# Altium footprint library ATSAMA5D27C-LD2G-CU.PcbLib: 3 footprints
Each footprint in its own frame and in the unit in brackets; x right, y up, seen from the top. Pads: shape width x height; smd on the part's side, far side on the other; paste and mask are expansions set on the pad; w line width, h text height; cw(c..) or ccw(c..) is an arc to the next point about the centre after c.
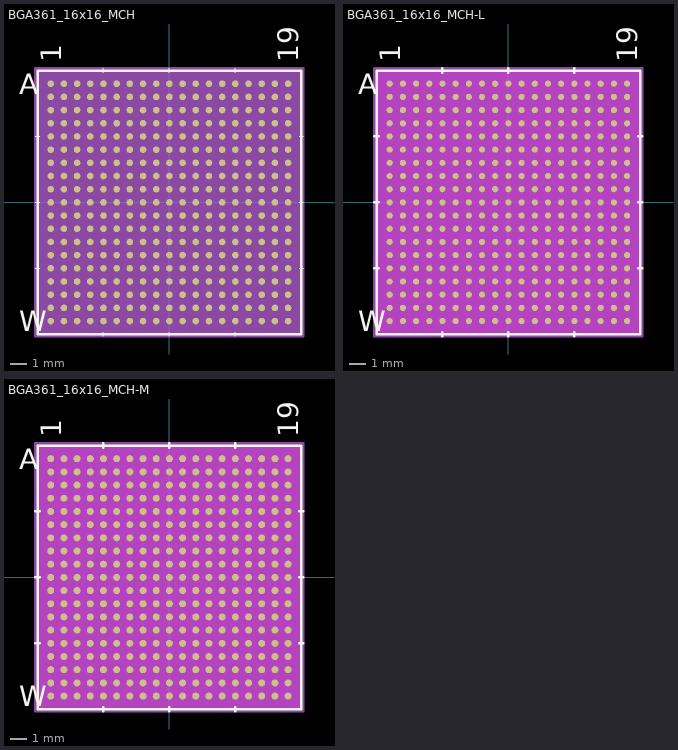
[diagram p0: the footprints below, top view; thin cyan lines are the x and y axes]

## BGA361_16x16_MCH [mil]
pads (361):
  round 16 smd paste+0 mask+0: A1(-288,288) A2(-256,288) A3(-224,288) A4(-192,288) A5(-160,288) A6(-128,288) A7(-96,288) A8(-64,288) A9(-32,288) A10(0,288) A11(32,288) A12(64,288) A13(96,288) A14(128,288) A15(160,288) A16(192,288) A17(224,288) A18(256,288) A19(288,288) B1(-288,256) B2(-256,256) B3(-224,256) B4(-192,256) B5(-160,256) B6(-128,256) B7(-96,256) B8(-64,256) B9(-32,256) B10(0,256) B11(32,256) B12(64,256) B13(96,256) B14(128,256) B15(160,256) B16(192,256) B17(224,256) B18(256,256) B19(288,256) C1(-288,224) C2(-256,224) C3(-224,224) C4(-192,224) C5(-160,224) C6(-128,224) C7(-96,224) C8(-64,224) C9(-32,224) C10(0,224) C11(32,224) C12(64,224) C13(96,224) C14(128,224) C15(160,224) C16(192,224) C17(224,224) C18(256,224) C19(288,224) D1(-288,192) D2(-256,192) D3(-224,192) D4(-192,192) D5(-160,192) D6(-128,192) D7(-96,192) D8(-64,192) D9(-32,192) D10(0,192) D11(32,192) D12(64,192) D13(96,192) D14(128,192) D15(160,192) D16(192,192) D17(224,192) D18(256,192) D19(288,192) E1(-288,160) E2(-256,160) E3(-224,160) E4(-192,160) E5(-160,160) E6(-128,160) E7(-96,160) E8(-64,160) E9(-32,160) E10(0,160) E11(32,160) E12(64,160) E13(96,160) E14(128,160) E15(160,160) E16(192,160) E17(224,160) E18(256,160) E19(288,160) F1(-288,128) F2(-256,128) F3(-224,128) F4(-192,128) F5(-160,128) F6(-128,128) F7(-96,128) F8(-64,128) F9(-32,128) F10(0,128) F11(32,128) F12(64,128) F13(96,128) F14(128,128) F15(160,128) F16(192,128) F17(224,128) F18(256,128) F19(288,128) G1(-288,96) G2(-256,96) G3(-224,96) G4(-192,96) G5(-160,96) G6(-128,96) G7(-96,96) G8(-64,96) G9(-32,96) G10(0,96) G11(32,96) G12(64,96) G13(96,96) G14(128,96) G15(160,96) G16(192,96) G17(224,96) G18(256,96) G19(288,96) H1(-288,64) H2(-256,64) H3(-224,64) H4(-192,64) H5(-160,64) H6(-128,64) H7(-96,64) H8(-64,64) H9(-32,64) H10(0,64) H11(32,64) H12(64,64) H13(96,64) H14(128,64) H15(160,64) H16(192,64) H17(224,64) H18(256,64) H19(288,64) J1(-288,32) J2(-256,32) J3(-224,32) J4(-192,32) J5(-160,32) J6(-128,32) J7(-96,32) J8(-64,32) J9(-32,32) J10(0,32) J11(32,32) J12(64,32) J13(96,32) J14(128,32) J15(160,32) J16(192,32) J17(224,32) J18(256,32) J19(288,32) K1(-288,0) K2(-256,0) K3(-224,0) K4(-192,0) K5(-160,0) K6(-128,0) K7(-96,0) K8(-64,0) K9(-32,0) K10(0,0) K11(32,0) K12(64,0) K13(96,0) K14(128,0) K15(160,0) K16(192,0) K17(224,0) K18(256,0) K19(288,0) L1(-288,-32) L2(-256,-32) L3(-224,-32) L4(-192,-32) L5(-160,-32) L6(-128,-32) L7(-96,-32) L8(-64,-32) L9(-32,-32) L10(0,-32) L11(32,-32) L12(64,-32) L13(96,-32) L14(128,-32) L15(160,-32) L16(192,-32) L17(224,-32) L18(256,-32) L19(288,-32) M1(-288,-64) M2(-256,-64) M3(-224,-64) M4(-192,-64) M5(-160,-64) M6(-128,-64) M7(-96,-64) M8(-64,-64) M9(-32,-64) M10(0,-64) M11(32,-64) M12(64,-64) M13(96,-64) M14(128,-64) M15(160,-64) M16(192,-64) M17(224,-64) M18(256,-64) M19(288,-64) N1(-288,-96) N2(-256,-96) N3(-224,-96) N4(-192,-96) N5(-160,-96) N6(-128,-96) N7(-96,-96) N8(-64,-96) N9(-32,-96) N10(0,-96) N11(32,-96) N12(64,-96) N13(96,-96) N14(128,-96) N15(160,-96) N16(192,-96) N17(224,-96) N18(256,-96) N19(288,-96) P1(-288,-128) P2(-256,-128) P3(-224,-128) P4(-192,-128) P5(-160,-128) P6(-128,-128) P7(-96,-128) P8(-64,-128) P9(-32,-128) P10(0,-128) P11(32,-128) P12(64,-128) P13(96,-128) P14(128,-128) P15(160,-128) P16(192,-128) P17(224,-128) P18(256,-128) P19(288,-128) R1(-288,-160) R2(-256,-160) R3(-224,-160) R4(-192,-160) R5(-160,-160) R6(-128,-160) R7(-96,-160) R8(-64,-160) R9(-32,-160) R10(0,-160) R11(32,-160) R12(64,-160) R13(96,-160) R14(128,-160) R15(160,-160) R16(192,-160) R17(224,-160) R18(256,-160) R19(288,-160) T1(-288,-192) T2(-256,-192) T3(-224,-192) T4(-192,-192) T5(-160,-192) T6(-128,-192) T7(-96,-192) T8(-64,-192) T9(-32,-192) T10(0,-192) T11(32,-192) T12(64,-192) T13(96,-192) T14(128,-192) T15(160,-192) T16(192,-192) T17(224,-192) T18(256,-192) T19(288,-192) U1(-288,-224) U2(-256,-224) U3(-224,-224) U4(-192,-224) U5(-160,-224) U6(-128,-224) U7(-96,-224) U8(-64,-224) U9(-32,-224) U10(0,-224) U11(32,-224) U12(64,-224) U13(96,-224) U14(128,-224) U15(160,-224) U16(192,-224) U17(224,-224) U18(256,-224) U19(288,-224) V1(-288,-256) V2(-256,-256) V3(-224,-256) V4(-192,-256) V5(-160,-256) V6(-128,-256) V7(-96,-256) V8(-64,-256) V9(-32,-256) V10(0,-256) V11(32,-256) V12(64,-256) V13(96,-256) V14(128,-256) V15(160,-256) V16(192,-256) V17(224,-256) V18(256,-256) V19(288,-256) W1(-288,-288) W2(-256,-288) W3(-224,-288) W4(-192,-288) W5(-160,-288) W6(-128,-288) W7(-96,-288) W8(-64,-288) W9(-32,-288) W10(0,-288) W11(32,-288) W12(64,-288) W13(96,-288) W14(128,-288) W15(160,-288) W16(192,-288) W17(224,-288) W18(256,-288) W19(288,-288)
Top Overlay:
  lines w1: -325,-160 -315,-160 ; -325,0 -315,0 ; -325,160 -315,160 ; -160,-325 -160,-315 ; -160,315 -160,325 ; 0,-325 0,-315 ; 0,315 0,325 ; 160,-325 160,-315 ; 160,315 160,325 ; 315,-160 325,-160 ; 315,0 325,0 ; 315,160 325,160
  lines w6: -320,-320 -320,320 320,320 320,-320 -320,-320
  text "19" at 313,340 h50
  text "1" at -263,340 h50
  text "W" at -365,-313 h50
  text "A" at -365,263 h50
Bottom Overlay:
  text "19" at 263,340 h50
  text "1" at -313,340 h50
  text "W" at -340,-313 h50
  text "A" at -340,263 h50
Mechanical 13:
  lines w1: -315,299 -299,315 ; -315,-315 -315,315 315,315 315,-315 -315,-315
  text "19" at 313,340 h50
  text "1" at -263,340 h50
  text "W" at -365,-313 h50
  text "A" at -365,263 h50
Mechanical 15:
  region: 325,-325 -325,-325 -325,325 325,325
  lines w6: -325,-325 325,-325 325,325 -325,325 -325,-325
3D body "BGA361_16x16_MCH.step": height 47.09, standoff 0, extent -316.29,-312.59 313.71,317.41
3D body "BGA361_16x16_MCH.step": height 47.09, standoff 0, extent -315,-315 315,315

## BGA361_16x16_MCH-L [mil]
pads (361):
  round 15 smd paste+0 mask+0: A1(-288,288) A2(-256,288) A3(-224,288) A4(-192,288) A5(-160,288) A6(-128,288) A7(-96,288) A8(-64,288) A9(-32,288) A10(0,288) A11(32,288) A12(64,288) A13(96,288) A14(128,288) A15(160,288) A16(192,288) A17(224,288) A18(256,288) A19(288,288) B1(-288,256) B2(-256,256) B3(-224,256) B4(-192,256) B5(-160,256) B6(-128,256) B7(-96,256) B8(-64,256) B9(-32,256) B10(0,256) B11(32,256) B12(64,256) B13(96,256) B14(128,256) B15(160,256) B16(192,256) B17(224,256) B18(256,256) B19(288,256) C1(-288,224) C2(-256,224) C3(-224,224) C4(-192,224) C5(-160,224) C6(-128,224) C7(-96,224) C8(-64,224) C9(-32,224) C10(0,224) C11(32,224) C12(64,224) C13(96,224) C14(128,224) C15(160,224) C16(192,224) C17(224,224) C18(256,224) C19(288,224) D1(-288,192) D2(-256,192) D3(-224,192) D4(-192,192) D5(-160,192) D6(-128,192) D7(-96,192) D8(-64,192) D9(-32,192) D10(0,192) D11(32,192) D12(64,192) D13(96,192) D14(128,192) D15(160,192) D16(192,192) D17(224,192) D18(256,192) D19(288,192) E1(-288,160) E2(-256,160) E3(-224,160) E4(-192,160) E5(-160,160) E6(-128,160) E7(-96,160) E8(-64,160) E9(-32,160) E10(0,160) E11(32,160) E12(64,160) E13(96,160) E14(128,160) E15(160,160) E16(192,160) E17(224,160) E18(256,160) E19(288,160) F1(-288,128) F2(-256,128) F3(-224,128) F4(-192,128) F5(-160,128) F6(-128,128) F7(-96,128) F8(-64,128) F9(-32,128) F10(0,128) F11(32,128) F12(64,128) F13(96,128) F14(128,128) F15(160,128) F16(192,128) F17(224,128) F18(256,128) F19(288,128) G1(-288,96) G2(-256,96) G3(-224,96) G4(-192,96) G5(-160,96) G6(-128,96) G7(-96,96) G8(-64,96) G9(-32,96) G10(0,96) G11(32,96) G12(64,96) G13(96,96) G14(128,96) G15(160,96) G16(192,96) G17(224,96) G18(256,96) G19(288,96) H1(-288,64) H2(-256,64) H3(-224,64) H4(-192,64) H5(-160,64) H6(-128,64) H7(-96,64) H8(-64,64) H9(-32,64) H10(0,64) H11(32,64) H12(64,64) H13(96,64) H14(128,64) H15(160,64) H16(192,64) H17(224,64) H18(256,64) H19(288,64) J1(-288,32) J2(-256,32) J3(-224,32) J4(-192,32) J5(-160,32) J6(-128,32) J7(-96,32) J8(-64,32) J9(-32,32) J10(0,32) J11(32,32) J12(64,32) J13(96,32) J14(128,32) J15(160,32) J16(192,32) J17(224,32) J18(256,32) J19(288,32) K1(-288,0) K2(-256,0) K3(-224,0) K4(-192,0) K5(-160,0) K6(-128,0) K7(-96,0) K8(-64,0) K9(-32,0) K10(0,0) K11(32,0) K12(64,0) K13(96,0) K14(128,0) K15(160,0) K16(192,0) K17(224,0) K18(256,0) K19(288,0) L1(-288,-32) L2(-256,-32) L3(-224,-32) L4(-192,-32) L5(-160,-32) L6(-128,-32) L7(-96,-32) L8(-64,-32) L9(-32,-32) L10(0,-32) L11(32,-32) L12(64,-32) L13(96,-32) L14(128,-32) L15(160,-32) L16(192,-32) L17(224,-32) L18(256,-32) L19(288,-32) M1(-288,-64) M2(-256,-64) M3(-224,-64) M4(-192,-64) M5(-160,-64) M6(-128,-64) M7(-96,-64) M8(-64,-64) M9(-32,-64) M10(0,-64) M11(32,-64) M12(64,-64) M13(96,-64) M14(128,-64) M15(160,-64) M16(192,-64) M17(224,-64) M18(256,-64) M19(288,-64) N1(-288,-96) N2(-256,-96) N3(-224,-96) N4(-192,-96) N5(-160,-96) N6(-128,-96) N7(-96,-96) N8(-64,-96) N9(-32,-96) N10(0,-96) N11(32,-96) N12(64,-96) N13(96,-96) N14(128,-96) N15(160,-96) N16(192,-96) N17(224,-96) N18(256,-96) N19(288,-96) P1(-288,-128) P2(-256,-128) P3(-224,-128) P4(-192,-128) P5(-160,-128) P6(-128,-128) P7(-96,-128) P8(-64,-128) P9(-32,-128) P10(0,-128) P11(32,-128) P12(64,-128) P13(96,-128) P14(128,-128) P15(160,-128) P16(192,-128) P17(224,-128) P18(256,-128) P19(288,-128) R1(-288,-160) R2(-256,-160) R3(-224,-160) R4(-192,-160) R5(-160,-160) R6(-128,-160) R7(-96,-160) R8(-64,-160) R9(-32,-160) R10(0,-160) R11(32,-160) R12(64,-160) R13(96,-160) R14(128,-160) R15(160,-160) R16(192,-160) R17(224,-160) R18(256,-160) R19(288,-160) T1(-288,-192) T2(-256,-192) T3(-224,-192) T4(-192,-192) T5(-160,-192) T6(-128,-192) T7(-96,-192) T8(-64,-192) T9(-32,-192) T10(0,-192) T11(32,-192) T12(64,-192) T13(96,-192) T14(128,-192) T15(160,-192) T16(192,-192) T17(224,-192) T18(256,-192) T19(288,-192) U1(-288,-224) U2(-256,-224) U3(-224,-224) U4(-192,-224) U5(-160,-224) U6(-128,-224) U7(-96,-224) U8(-64,-224) U9(-32,-224) U10(0,-224) U11(32,-224) U12(64,-224) U13(96,-224) U14(128,-224) U15(160,-224) U16(192,-224) U17(224,-224) U18(256,-224) U19(288,-224) V1(-288,-256) V2(-256,-256) V3(-224,-256) V4(-192,-256) V5(-160,-256) V6(-128,-256) V7(-96,-256) V8(-64,-256) V9(-32,-256) V10(0,-256) V11(32,-256) V12(64,-256) V13(96,-256) V14(128,-256) V15(160,-256) V16(192,-256) V17(224,-256) V18(256,-256) V19(288,-256) W1(-288,-288) W2(-256,-288) W3(-224,-288) W4(-192,-288) W5(-160,-288) W6(-128,-288) W7(-96,-288) W8(-64,-288) W9(-32,-288) W10(0,-288) W11(32,-288) W12(64,-288) W13(96,-288) W14(128,-288) W15(160,-288) W16(192,-288) W17(224,-288) W18(256,-288) W19(288,-288)
Top Overlay:
  lines w6: -325,-160 -315,-160 ; -325,0 -315,0 ; -325,160 -315,160 ; -160,-325 -160,-315 ; -160,315 -160,325 ; 0,-325 0,-315 ; 0,315 0,325 ; 160,-325 160,-315 ; 160,315 160,325 ; 315,-160 325,-160 ; 315,0 325,0 ; 315,160 325,160 ; -320,-320 320,-320 320,320 -320,320 -320,-320
  text "A" at -365,263 h50
  text "W" at -365,-313 h50
  text "1" at -263,340 h50
  text "19" at 313,340 h50
Bottom Overlay:
  text "A" at -340,263 h50
  text "W" at -340,-313 h50
  text "1" at -313,340 h50
  text "19" at 263,340 h50
Keep-Out Layer:
  region: -321.5,-321.5 -321.5,321.5 321.5,321.5 321.5,-321.5
Mechanical 13:
  lines w1: -315,299 -299,315 ; -315,-315 315,-315 315,315 -315,315 -315,-315
  text "A" at -365,263 h50
  text "W" at -365,-313 h50
  text "1" at -263,340 h50
  text "19" at 313,340 h50
Mechanical 15:
  region: 325,-325 -325,-325 -325,325 325,325
  lines w6: -325,-325 -325,325 325,325 325,-325 -325,-325
3D body "BGA361_16x16_MCH.step": height 47.09, standoff 0, extent -315,-315 315,315

## BGA361_16x16_MCH-M [mil]
pads (361):
  round 17 smd paste+0 mask+0: A1(-288,288) A2(-256,288) A3(-224,288) A4(-192,288) A5(-160,288) A6(-128,288) A7(-96,288) A8(-64,288) A9(-32,288) A10(0,288) A11(32,288) A12(64,288) A13(96,288) A14(128,288) A15(160,288) A16(192,288) A17(224,288) A18(256,288) A19(288,288) B1(-288,256) B2(-256,256) B3(-224,256) B4(-192,256) B5(-160,256) B6(-128,256) B7(-96,256) B8(-64,256) B9(-32,256) B10(0,256) B11(32,256) B12(64,256) B13(96,256) B14(128,256) B15(160,256) B16(192,256) B17(224,256) B18(256,256) B19(288,256) C1(-288,224) C2(-256,224) C3(-224,224) C4(-192,224) C5(-160,224) C6(-128,224) C7(-96,224) C8(-64,224) C9(-32,224) C10(0,224) C11(32,224) C12(64,224) C13(96,224) C14(128,224) C15(160,224) C16(192,224) C17(224,224) C18(256,224) C19(288,224) D1(-288,192) D2(-256,192) D3(-224,192) D4(-192,192) D5(-160,192) D6(-128,192) D7(-96,192) D8(-64,192) D9(-32,192) D10(0,192) D11(32,192) D12(64,192) D13(96,192) D14(128,192) D15(160,192) D16(192,192) D17(224,192) D18(256,192) D19(288,192) E1(-288,160) E2(-256,160) E3(-224,160) E4(-192,160) E5(-160,160) E6(-128,160) E7(-96,160) E8(-64,160) E9(-32,160) E10(0,160) E11(32,160) E12(64,160) E13(96,160) E14(128,160) E15(160,160) E16(192,160) E17(224,160) E18(256,160) E19(288,160) F1(-288,128) F2(-256,128) F3(-224,128) F4(-192,128) F5(-160,128) F6(-128,128) F7(-96,128) F8(-64,128) F9(-32,128) F10(0,128) F11(32,128) F12(64,128) F13(96,128) F14(128,128) F15(160,128) F16(192,128) F17(224,128) F18(256,128) F19(288,128) G1(-288,96) G2(-256,96) G3(-224,96) G4(-192,96) G5(-160,96) G6(-128,96) G7(-96,96) G8(-64,96) G9(-32,96) G10(0,96) G11(32,96) G12(64,96) G13(96,96) G14(128,96) G15(160,96) G16(192,96) G17(224,96) G18(256,96) G19(288,96) H1(-288,64) H2(-256,64) H3(-224,64) H4(-192,64) H5(-160,64) H6(-128,64) H7(-96,64) H8(-64,64) H9(-32,64) H10(0,64) H11(32,64) H12(64,64) H13(96,64) H14(128,64) H15(160,64) H16(192,64) H17(224,64) H18(256,64) H19(288,64) J1(-288,32) J2(-256,32) J3(-224,32) J4(-192,32) J5(-160,32) J6(-128,32) J7(-96,32) J8(-64,32) J9(-32,32) J10(0,32) J11(32,32) J12(64,32) J13(96,32) J14(128,32) J15(160,32) J16(192,32) J17(224,32) J18(256,32) J19(288,32) K1(-288,0) K2(-256,0) K3(-224,0) K4(-192,0) K5(-160,0) K6(-128,0) K7(-96,0) K8(-64,0) K9(-32,0) K10(0,0) K11(32,0) K12(64,0) K13(96,0) K14(128,0) K15(160,0) K16(192,0) K17(224,0) K18(256,0) K19(288,0) L1(-288,-32) L2(-256,-32) L3(-224,-32) L4(-192,-32) L5(-160,-32) L6(-128,-32) L7(-96,-32) L8(-64,-32) L9(-32,-32) L10(0,-32) L11(32,-32) L12(64,-32) L13(96,-32) L14(128,-32) L15(160,-32) L16(192,-32) L17(224,-32) L18(256,-32) L19(288,-32) M1(-288,-64) M2(-256,-64) M3(-224,-64) M4(-192,-64) M5(-160,-64) M6(-128,-64) M7(-96,-64) M8(-64,-64) M9(-32,-64) M10(0,-64) M11(32,-64) M12(64,-64) M13(96,-64) M14(128,-64) M15(160,-64) M16(192,-64) M17(224,-64) M18(256,-64) M19(288,-64) N1(-288,-96) N2(-256,-96) N3(-224,-96) N4(-192,-96) N5(-160,-96) N6(-128,-96) N7(-96,-96) N8(-64,-96) N9(-32,-96) N10(0,-96) N11(32,-96) N12(64,-96) N13(96,-96) N14(128,-96) N15(160,-96) N16(192,-96) N17(224,-96) N18(256,-96) N19(288,-96) P1(-288,-128) P2(-256,-128) P3(-224,-128) P4(-192,-128) P5(-160,-128) P6(-128,-128) P7(-96,-128) P8(-64,-128) P9(-32,-128) P10(0,-128) P11(32,-128) P12(64,-128) P13(96,-128) P14(128,-128) P15(160,-128) P16(192,-128) P17(224,-128) P18(256,-128) P19(288,-128) R1(-288,-160) R2(-256,-160) R3(-224,-160) R4(-192,-160) R5(-160,-160) R6(-128,-160) R7(-96,-160) R8(-64,-160) R9(-32,-160) R10(0,-160) R11(32,-160) R12(64,-160) R13(96,-160) R14(128,-160) R15(160,-160) R16(192,-160) R17(224,-160) R18(256,-160) R19(288,-160) T1(-288,-192) T2(-256,-192) T3(-224,-192) T4(-192,-192) T5(-160,-192) T6(-128,-192) T7(-96,-192) T8(-64,-192) T9(-32,-192) T10(0,-192) T11(32,-192) T12(64,-192) T13(96,-192) T14(128,-192) T15(160,-192) T16(192,-192) T17(224,-192) T18(256,-192) T19(288,-192) U1(-288,-224) U2(-256,-224) U3(-224,-224) U4(-192,-224) U5(-160,-224) U6(-128,-224) U7(-96,-224) U8(-64,-224) U9(-32,-224) U10(0,-224) U11(32,-224) U12(64,-224) U13(96,-224) U14(128,-224) U15(160,-224) U16(192,-224) U17(224,-224) U18(256,-224) U19(288,-224) V1(-288,-256) V2(-256,-256) V3(-224,-256) V4(-192,-256) V5(-160,-256) V6(-128,-256) V7(-96,-256) V8(-64,-256) V9(-32,-256) V10(0,-256) V11(32,-256) V12(64,-256) V13(96,-256) V14(128,-256) V15(160,-256) V16(192,-256) V17(224,-256) V18(256,-256) V19(288,-256) W1(-288,-288) W2(-256,-288) W3(-224,-288) W4(-192,-288) W5(-160,-288) W6(-128,-288) W7(-96,-288) W8(-64,-288) W9(-32,-288) W10(0,-288) W11(32,-288) W12(64,-288) W13(96,-288) W14(128,-288) W15(160,-288) W16(192,-288) W17(224,-288) W18(256,-288) W19(288,-288)
Top Overlay:
  lines w6: -325,-160 -315,-160 ; -325,0 -315,0 ; -325,160 -315,160 ; -160,-325 -160,-315 ; -160,315 -160,325 ; 0,-325 0,-315 ; 0,315 0,325 ; 160,-325 160,-315 ; 160,315 160,325 ; 315,-160 325,-160 ; 315,0 325,0 ; 315,160 325,160 ; -320,-320 320,-320 320,320 -320,320 -320,-320
  text "A" at -365,263 h50
  text "W" at -365,-313 h50
  text "1" at -263,340 h50
  text "19" at 313,340 h50
Bottom Overlay:
  text "A" at -340,263 h50
  text "W" at -340,-313 h50
  text "1" at -313,340 h50
  text "19" at 263,340 h50
Keep-Out Layer:
  region: -321.5,-321.5 -321.5,321.5 321.5,321.5 321.5,-321.5
Mechanical 13:
  lines w1: -315,299 -299,315 ; -315,-315 315,-315 315,315 -315,315 -315,-315
  text "A" at -365,263 h50
  text "W" at -365,-313 h50
  text "1" at -263,340 h50
  text "19" at 313,340 h50
Mechanical 15:
  region: 325,-325 -325,-325 -325,325 325,325
  lines w6: -325,-325 -325,325 325,325 325,-325 -325,-325
3D body "BGA361_16x16_MCH.step": height 47.09, standoff 0, extent -315,-315 315,315